# Altium footprint library Motorola Footprints.PcbLib: 408 footprints (part 21 of 26)
Each footprint in its own frame and in the unit in brackets; x right, y up, seen from the top. Pads: shape width x height; smd on the part's side, far side on the other; paste and mask are expansions set on the pad; w line width, h text height; cw(c..) or ccw(c..) is an arc to the next point about the centre after c.
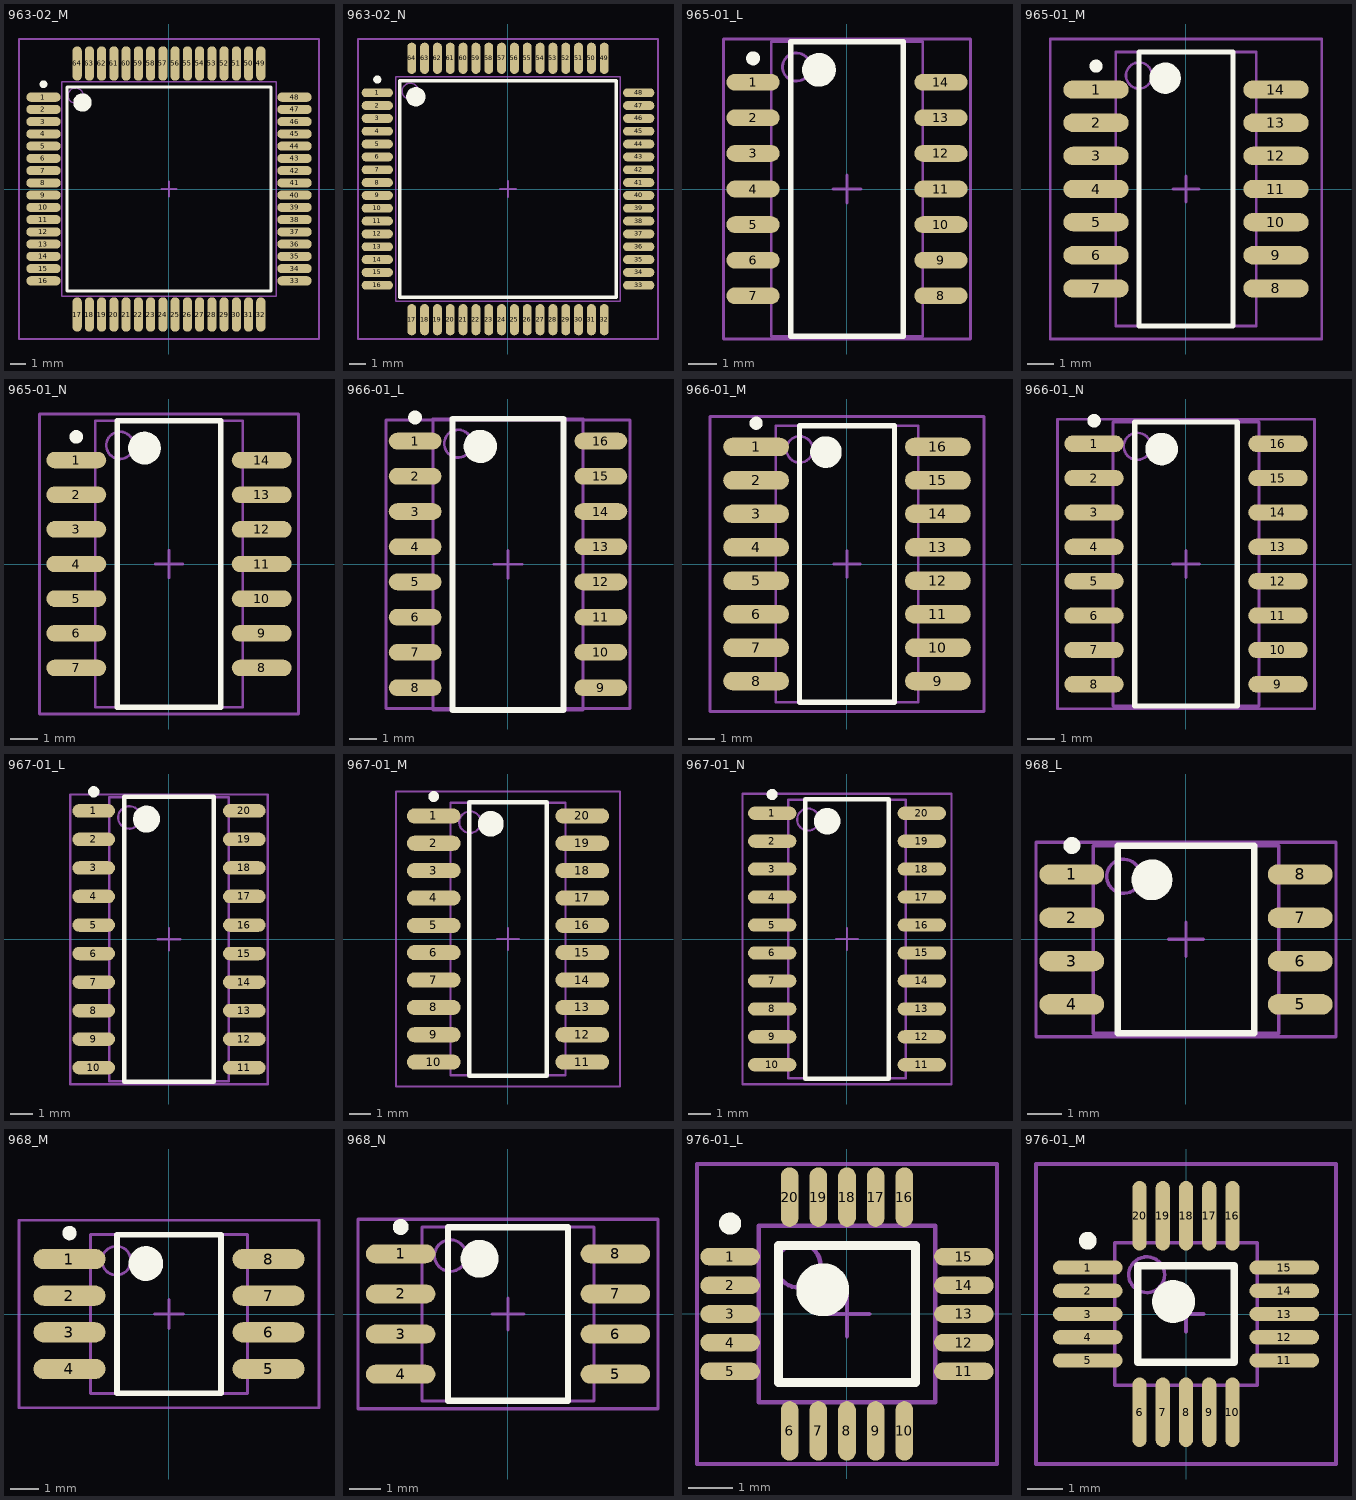
[diagram p20: the footprints below, top view; thin cyan lines are the x and y axes]

## 963-02_M [mm] "64-Pin Quad Flat Pack 0.8 mm Pitch, IPC Low Density"
height 4.11
pads (64):
  oval 2.25x0.6 smd: 1(-8.2,6) 2(-8.2,5.2) 3(-8.2,4.4) 4(-8.2,3.6) 5(-8.2,2.8) 6(-8.2,2) 7(-8.2,1.2) 8(-8.2,0.4) 9(-8.2,-0.4) 10(-8.2,-1.2) 11(-8.2,-2) 12(-8.2,-2.8) 13(-8.2,-3.6) 14(-8.2,-4.4) 15(-8.2,-5.2) 16(-8.2,-6) 33(8.2,-6) 34(8.2,-5.2) 35(8.2,-4.4) 36(8.2,-3.6) 37(8.2,-2.8) 38(8.2,-2) 39(8.2,-1.2) 40(8.2,-0.4) 41(8.2,0.4) 42(8.2,1.2) 43(8.2,2) 44(8.2,2.8) 45(8.2,3.6) 46(8.2,4.4) 47(8.2,5.2) 48(8.2,6)
  oval 0.6x2.25 smd: 17(-6,-8.2) 18(-5.2,-8.2) 19(-4.4,-8.2) 20(-3.6,-8.2) 21(-2.8,-8.2) 22(-2,-8.2) 23(-1.2,-8.2) 24(-0.4,-8.2) 25(0.4,-8.2) 26(1.2,-8.2) 27(2,-8.2) 28(2.8,-8.2) 29(3.6,-8.2) 30(4.4,-8.2) 31(5.2,-8.2) 32(6,-8.2) 49(6,8.2) 50(5.2,8.2) 51(4.4,8.2) 52(3.6,8.2) 53(2.8,8.2) 54(2,8.2) 55(1.2,8.2) 56(0.4,8.2) 57(-0.4,8.2) 58(-1.2,8.2) 59(-2,8.2) 60(-2.8,8.2) 61(-3.6,8.2) 62(-4.4,8.2) 63(-5.2,8.2) 64(-6,8.2)
Top Overlay:
  circle w0.6: c-5.65,5.65 r0.3
  circle w0.25: c-8.2,6.85 r0.125
  lines w0.2: -6.65,-6.65 6.65,-6.65 6.65,6.65 -6.65,6.65 -6.65,-6.65
Mechanical 13:
  circle w0.1: c-6.1,6.1 r0.5
  lines w0.1: -7,-7 7,-7 7,7 -7,7 -7,-7
Mechanical 15:
  lines w0.1: -0.5,0 0.5,0 ; 0,-0.5 0,0.5 ; -9.8,-9.8 9.8,-9.8 9.8,9.8 -9.8,9.8 -9.8,-9.8
3D body: height 4.11, standoff 0, extent -7,-7 7,7

## 963-02_N [mm] "64-Pin Quad Flat Pack 0.8 mm Pitch, IPC Medium Density"
height 4.11
pads (64):
  oval 1.95x0.55 smd: 1(-8.15,6) 2(-8.15,5.2) 3(-8.15,4.4) 4(-8.15,3.6) 5(-8.15,2.8) 6(-8.15,2) 7(-8.15,1.2) 8(-8.15,0.4) 9(-8.15,-0.4) 10(-8.15,-1.2) 11(-8.15,-2) 12(-8.15,-2.8) 13(-8.15,-3.6) 14(-8.15,-4.4) 15(-8.15,-5.2) 16(-8.15,-6) 33(8.15,-6) 34(8.15,-5.2) 35(8.15,-4.4) 36(8.15,-3.6) 37(8.15,-2.8) 38(8.15,-2) 39(8.15,-1.2) 40(8.15,-0.4) 41(8.15,0.4) 42(8.15,1.2) 43(8.15,2) 44(8.15,2.8) 45(8.15,3.6) 46(8.15,4.4) 47(8.15,5.2) 48(8.15,6)
  oval 0.55x1.95 smd: 17(-6,-8.15) 18(-5.2,-8.15) 19(-4.4,-8.15) 20(-3.6,-8.15) 21(-2.8,-8.15) 22(-2,-8.15) 23(-1.2,-8.15) 24(-0.4,-8.15) 25(0.4,-8.15) 26(1.2,-8.15) 27(2,-8.15) 28(2.8,-8.15) 29(3.6,-8.15) 30(4.4,-8.15) 31(5.2,-8.15) 32(6,-8.15) 49(6,8.15) 50(5.2,8.15) 51(4.4,8.15) 52(3.6,8.15) 53(2.8,8.15) 54(2,8.15) 55(1.2,8.15) 56(0.4,8.15) 57(-0.4,8.15) 58(-1.2,8.15) 59(-2,8.15) 60(-2.8,8.15) 61(-3.6,8.15) 62(-4.4,8.15) 63(-5.2,8.15) 64(-6,8.15)
Top Overlay:
  circle w0.6: c-5.75,5.75 r0.3
  circle w0.25: c-8.15,6.825 r0.125
  lines w0.2: -6.75,-6.75 6.75,-6.75 6.75,6.75 -6.75,6.75 -6.75,-6.75
Mechanical 13:
  circle w0.1: c-6.1,6.1 r0.5
  lines w0.1: -7,-7 7,-7 7,7 -7,7 -7,-7
Mechanical 15:
  lines w0.1: -0.5,0 0.5,0 ; 0,-0.5 0,0.5 ; -9.35,-9.35 9.35,-9.35 9.35,9.35 -9.35,9.35 -9.35,-9.35
3D body: height 4.11, standoff 0, extent -7,-7 7,7

## 965-01_L [mm] "14-Pin Small Outline Package 1.27 mm Pitch, IPC High Density"
height 2.05
pads (14):
  oval 1.9x0.6 smd: 1(-3.35,3.81) 2(-3.35,2.54) 3(-3.35,1.27) 4(-3.35,0) 5(-3.35,-1.27) 6(-3.35,-2.54) 7(-3.35,-3.81) 8(3.35,-3.81) 9(3.35,-2.54) 10(3.35,-1.27) 11(3.35,0) 12(3.35,1.27) 13(3.35,2.54) 14(3.35,3.81)
Top Overlay:
  circle w0.25: c-3.35,4.66 r0.125
  circle w0.6: c-1,4.25 r0.3
  lines w0.2: -2,-5.25 -2,5.25 2,5.25 2,-5.25 -2,-5.25
Mechanical 13:
  circle w0.1: c-1.8,4.35 r0.5
  lines w0.1: -2.7,-5.25 -2.7,5.25 2.7,5.25 2.7,-5.25 -2.7,-5.25
Mechanical 15:
  lines w0.1: -0.5,0 0.5,0 ; 0,-0.5 0,0.5 ; -4.4,-5.35 -4.4,5.35 4.4,5.35 4.4,-5.35 -4.4,-5.35
3D body: height 2.05, standoff 0, extent -2.7,-5.25 2.7,5.25

## 965-01_M [mm] "14-Pin Small Outline Package 1.27 mm Pitch, IPC Low Density"
height 2.05
pads (14):
  oval 2.5x0.7 smd: 1(-3.45,3.81) 2(-3.45,2.54) 3(-3.45,1.27) 4(-3.45,0) 5(-3.45,-1.27) 6(-3.45,-2.54) 7(-3.45,-3.81) 8(3.45,-3.81) 9(3.45,-2.54) 10(3.45,-1.27) 11(3.45,0) 12(3.45,1.27) 13(3.45,2.54) 14(3.45,3.81)
Top Overlay:
  circle w0.6: c-0.8,4.25 r0.3
  circle w0.25: c-3.45,4.71 r0.125
  lines w0.2: -1.8,-5.25 1.8,-5.25 1.8,5.25 -1.8,5.25 -1.8,-5.25
Mechanical 13:
  circle w0.1: c-1.8,4.35 r0.5
  lines w0.1: -2.7,-5.25 2.7,-5.25 2.7,5.25 -2.7,5.25 -2.7,-5.25
Mechanical 15:
  lines w0.1: -0.5,0 0.5,0 ; 0,-0.5 0,0.5 ; -5.2,-5.75 5.2,-5.75 5.2,5.75 -5.2,5.75 -5.2,-5.75
3D body: height 2.05, standoff 0, extent -2.7,-5.25 2.7,5.25

## 965-01_N [mm] "14-Pin Small Outline Package 1.27 mm Pitch, IPC Medium Density"
height 2.05
pads (14):
  oval 2.2x0.6 smd: 1(-3.4,3.81) 2(-3.4,2.54) 3(-3.4,1.27) 4(-3.4,0) 5(-3.4,-1.27) 6(-3.4,-2.54) 7(-3.4,-3.81) 8(3.4,-3.81) 9(3.4,-2.54) 10(3.4,-1.27) 11(3.4,0) 12(3.4,1.27) 13(3.4,2.54) 14(3.4,3.81)
Top Overlay:
  circle w0.25: c-3.4,4.66 r0.125
  circle w0.6: c-0.9,4.25 r0.3
  lines w0.2: -1.9,-5.25 -1.9,5.25 1.9,5.25 1.9,-5.25 -1.9,-5.25
Mechanical 13:
  circle w0.1: c-1.8,4.35 r0.5
  lines w0.1: -2.7,-5.25 -2.7,5.25 2.7,5.25 2.7,-5.25 -2.7,-5.25
Mechanical 15:
  lines w0.1: -0.5,0 0.5,0 ; 0,-0.5 0,0.5 ; -4.75,-5.5 -4.75,5.5 4.75,5.5 4.75,-5.5 -4.75,-5.5
3D body: height 2.05, standoff 0, extent -2.7,-5.25 2.7,5.25

## 966-01_L [mm] "16-Pin Small Outline Package 1.27 mm Pitch, IPC High Density"
height 2.05
pads (16):
  oval 1.9x0.6 smd: 1(-3.35,4.445) 2(-3.35,3.175) 3(-3.35,1.905) 4(-3.35,0.635) 5(-3.35,-0.635) 6(-3.35,-1.905) 7(-3.35,-3.175) 8(-3.35,-4.445) 9(3.35,-4.445) 10(3.35,-3.175) 11(3.35,-1.905) 12(3.35,-0.635) 13(3.35,0.635) 14(3.35,1.905) 15(3.35,3.175) 16(3.35,4.445)
Top Overlay:
  circle w0.25: c-3.35,5.295 r0.125
  circle w0.6: c-1,4.25 r0.3
  lines w0.2: -2,-5.25 -2,5.25 2,5.25 2,-5.25 -2,-5.25
Mechanical 13:
  circle w0.1: c-1.8,4.35 r0.5
  lines w0.1: -2.7,-5.25 -2.7,5.25 2.7,5.25 2.7,-5.25 -2.7,-5.25
Mechanical 15:
  lines w0.1: -0.5,0 0.5,0 ; 0,-0.5 0,0.5 ; -4.4,-5.2 -4.4,5.2 4.4,5.2 4.4,-5.2 -4.4,-5.2
3D body: height 2.05, standoff 0, extent -2.7,-5.25 2.7,5.25

## 966-01_M [mm] "16-Pin Small Outline Package 1.27 mm Pitch, IPC Low Density"
height 2.05
pads (16):
  oval 2.5x0.7 smd: 1(-3.45,4.445) 2(-3.45,3.175) 3(-3.45,1.905) 4(-3.45,0.635) 5(-3.45,-0.635) 6(-3.45,-1.905) 7(-3.45,-3.175) 8(-3.45,-4.445) 9(3.45,-4.445) 10(3.45,-3.175) 11(3.45,-1.905) 12(3.45,-0.635) 13(3.45,0.635) 14(3.45,1.905) 15(3.45,3.175) 16(3.45,4.445)
Top Overlay:
  circle w0.6: c-0.8,4.25 r0.3
  circle w0.25: c-3.45,5.345 r0.125
  lines w0.2: -1.8,-5.25 1.8,-5.25 1.8,5.25 -1.8,5.25 -1.8,-5.25
Mechanical 13:
  circle w0.1: c-1.8,4.35 r0.5
  lines w0.1: -2.7,-5.25 2.7,-5.25 2.7,5.25 -2.7,5.25 -2.7,-5.25
Mechanical 15:
  lines w0.1: -0.5,0 0.5,0 ; 0,-0.5 0,0.5 ; -5.2,-5.6 5.2,-5.6 5.2,5.6 -5.2,5.6 -5.2,-5.6
3D body: height 2.05, standoff 0, extent -2.7,-5.25 2.7,5.25

## 966-01_N [mm] "16-Pin Small Outline Package 1.27 mm Pitch, IPC Medium Density"
height 2.05
pads (16):
  oval 2.2x0.6 smd: 1(-3.4,4.445) 2(-3.4,3.175) 3(-3.4,1.905) 4(-3.4,0.635) 5(-3.4,-0.635) 6(-3.4,-1.905) 7(-3.4,-3.175) 8(-3.4,-4.445) 9(3.4,-4.445) 10(3.4,-3.175) 11(3.4,-1.905) 12(3.4,-0.635) 13(3.4,0.635) 14(3.4,1.905) 15(3.4,3.175) 16(3.4,4.445)
Top Overlay:
  circle w0.25: c-3.4,5.295 r0.125
  circle w0.6: c-0.9,4.25 r0.3
  lines w0.2: -1.9,-5.25 -1.9,5.25 1.9,5.25 1.9,-5.25 -1.9,-5.25
Mechanical 13:
  circle w0.1: c-1.8,4.35 r0.5
  lines w0.1: -2.7,-5.25 -2.7,5.25 2.7,5.25 2.7,-5.25 -2.7,-5.25
Mechanical 15:
  lines w0.1: -0.5,0 0.5,0 ; 0,-0.5 0,0.5 ; -4.75,-5.35 -4.75,5.35 4.75,5.35 4.75,-5.35 -4.75,-5.35
3D body: height 2.05, standoff 0, extent -2.7,-5.25 2.7,5.25

## 967-01_L [mm] "20-Pin Small Outline Package 1.27 mm Pitch, IPC High Density"
height 2.05
pads (20):
  oval 1.9x0.6 smd: 1(-3.35,5.715) 2(-3.35,4.445) 3(-3.35,3.175) 4(-3.35,1.905) 5(-3.35,0.635) 6(-3.35,-0.635) 7(-3.35,-1.905) 8(-3.35,-3.175) 9(-3.35,-4.445) 10(-3.35,-5.715) 11(3.35,-5.715) 12(3.35,-4.445) 13(3.35,-3.175) 14(3.35,-1.905) 15(3.35,-0.635) 16(3.35,0.635) 17(3.35,1.905) 18(3.35,3.175) 19(3.35,4.445) 20(3.35,5.715)
Top Overlay:
  circle w0.25: c-3.35,6.565 r0.125
  circle w0.6: c-1,5.35 r0.3
  lines w0.2: -2,-6.35 -2,6.35 2,6.35 2,-6.35 -2,-6.35
Mechanical 13:
  circle w0.1: c-1.765,5.425 r0.5
  lines w0.1: -2.665,-6.325 -2.665,6.325 2.665,6.325 2.665,-6.325 -2.665,-6.325
Mechanical 15:
  lines w0.1: -0.5,0 0.5,0 ; 0,-0.5 0,0.5 ; -4.4,-6.45 -4.4,6.45 4.4,6.45 4.4,-6.45 -4.4,-6.45
3D body: height 2.05, standoff 0, extent -2.665,-6.325 2.665,6.325

## 967-01_M [mm] "20-Pin Small Outline Package 1.27 mm Pitch, IPC Low Density"
height 2.05
pads (20):
  oval 2.5x0.7 smd: 1(-3.45,5.715) 2(-3.45,4.445) 3(-3.45,3.175) 4(-3.45,1.905) 5(-3.45,0.635) 6(-3.45,-0.635) 7(-3.45,-1.905) 8(-3.45,-3.175) 9(-3.45,-4.445) 10(-3.45,-5.715) 11(3.45,-5.715) 12(3.45,-4.445) 13(3.45,-3.175) 14(3.45,-1.905) 15(3.45,-0.635) 16(3.45,0.635) 17(3.45,1.905) 18(3.45,3.175) 19(3.45,4.445) 20(3.45,5.715)
Top Overlay:
  circle w0.6: c-0.8,5.35 r0.3
  circle w0.25: c-3.45,6.615 r0.125
  lines w0.2: -1.8,-6.35 1.8,-6.35 1.8,6.35 -1.8,6.35 -1.8,-6.35
Mechanical 13:
  circle w0.1: c-1.765,5.425 r0.5
  lines w0.1: -2.665,-6.325 2.665,-6.325 2.665,6.325 -2.665,6.325 -2.665,-6.325
Mechanical 15:
  lines w0.1: -0.5,0 0.5,0 ; 0,-0.5 0,0.5 ; -5.2,-6.85 5.2,-6.85 5.2,6.85 -5.2,6.85 -5.2,-6.85
3D body: height 2.05, standoff 0, extent -2.665,-6.325 2.665,6.325

## 967-01_N [mm] "20-Pin Small Outline Package 1.27 mm Pitch, IPC Medium Density"
height 2.05
pads (20):
  oval 2.2x0.6 smd: 1(-3.4,5.715) 2(-3.4,4.445) 3(-3.4,3.175) 4(-3.4,1.905) 5(-3.4,0.635) 6(-3.4,-0.635) 7(-3.4,-1.905) 8(-3.4,-3.175) 9(-3.4,-4.445) 10(-3.4,-5.715) 11(3.4,-5.715) 12(3.4,-4.445) 13(3.4,-3.175) 14(3.4,-1.905) 15(3.4,-0.635) 16(3.4,0.635) 17(3.4,1.905) 18(3.4,3.175) 19(3.4,4.445) 20(3.4,5.715)
Top Overlay:
  circle w0.25: c-3.4,6.565 r0.125
  circle w0.6: c-0.9,5.35 r0.3
  lines w0.2: -1.9,-6.35 -1.9,6.35 1.9,6.35 1.9,-6.35 -1.9,-6.35
Mechanical 13:
  circle w0.1: c-1.765,5.425 r0.5
  lines w0.1: -2.665,-6.325 -2.665,6.325 2.665,6.325 2.665,-6.325 -2.665,-6.325
Mechanical 15:
  lines w0.1: -0.5,0 0.5,0 ; 0,-0.5 0,0.5 ; -4.75,-6.6 -4.75,6.6 4.75,6.6 4.75,-6.6 -4.75,-6.6
3D body: height 2.05, standoff 0, extent -2.665,-6.325 2.665,6.325

## 968_L [mm] "8-Pin Small Outline Package 1.27 mm Pitch, IPC High Density"
height 2.2
pads (8):
  oval 1.9x0.6 smd: 1(-3.35,1.905) 2(-3.35,0.635) 3(-3.35,-0.635) 4(-3.35,-1.905) 5(3.35,-1.905) 6(3.35,-0.635) 7(3.35,0.635) 8(3.35,1.905)
Top Overlay:
  circle w0.25: c-3.35,2.755 r0.125
  circle w0.6: c-1,1.75 r0.3
  lines w0.2: -2,-2.75 -2,2.75 2,2.75 2,-2.75 -2,-2.75
Mechanical 13:
  circle w0.1: c-1.825,1.85 r0.5
  lines w0.1: -2.725,-2.75 -2.725,2.75 2.725,2.75 2.725,-2.75 -2.725,-2.75
Mechanical 15:
  lines w0.1: -0.5,0 0.5,0 ; 0,-0.5 0,0.5 ; -4.4,-2.85 -4.4,2.85 4.4,2.85 4.4,-2.85 -4.4,-2.85
3D body: height 2.2, standoff 0, extent -2.725,-2.75 2.725,2.75

## 968_M [mm] "8-Pin Small Outline Package 1.27 mm Pitch, IPC Low Density"
height 2.2
pads (8):
  oval 2.5x0.7 smd: 1(-3.45,1.905) 2(-3.45,0.635) 3(-3.45,-0.635) 4(-3.45,-1.905) 5(3.45,-1.905) 6(3.45,-0.635) 7(3.45,0.635) 8(3.45,1.905)
Top Overlay:
  circle w0.6: c-0.8,1.75 r0.3
  circle w0.25: c-3.45,2.805 r0.125
  lines w0.2: -1.8,-2.75 1.8,-2.75 1.8,2.75 -1.8,2.75 -1.8,-2.75
Mechanical 13:
  circle w0.1: c-1.825,1.85 r0.5
  lines w0.1: -2.725,-2.75 2.725,-2.75 2.725,2.75 -2.725,2.75 -2.725,-2.75
Mechanical 15:
  lines w0.1: -0.5,0 0.5,0 ; 0,-0.5 0,0.5 ; -5.2,-3.25 5.2,-3.25 5.2,3.25 -5.2,3.25 -5.2,-3.25
3D body: height 2.2, standoff 0, extent -2.725,-2.75 2.725,2.75

## 968_N [mm] "8-Pin Small Outline Package 1.27 mm Pitch, IPC Medium Density"
height 2.2
pads (8):
  oval 2.2x0.6 smd: 1(-3.4,1.905) 2(-3.4,0.635) 3(-3.4,-0.635) 4(-3.4,-1.905) 5(3.4,-1.905) 6(3.4,-0.635) 7(3.4,0.635) 8(3.4,1.905)
Top Overlay:
  circle w0.25: c-3.4,2.755 r0.125
  circle w0.6: c-0.9,1.75 r0.3
  lines w0.2: -1.9,-2.75 -1.9,2.75 1.9,2.75 1.9,-2.75 -1.9,-2.75
Mechanical 13:
  circle w0.1: c-1.825,1.85 r0.5
  lines w0.1: -2.725,-2.75 -2.725,2.75 2.725,2.75 2.725,-2.75 -2.725,-2.75
Mechanical 15:
  lines w0.1: -0.5,0 0.5,0 ; 0,-0.5 0,0.5 ; -4.75,-3 -4.75,3 4.75,3 4.75,-3 -4.75,-3
3D body: height 2.2, standoff 0, extent -2.725,-2.75 2.725,2.75

## 976-01_L [mm] "20-Pin Thin Quad Flat Pack 0.65 mm Pitch, IPC High Density"
height 1.6
pads (20):
  oval 1.35x0.4 smd: 1(-2.65,1.3) 2(-2.65,0.65) 3(-2.65,0) 4(-2.65,-0.65) 5(-2.65,-1.3) 11(2.65,-1.3) 12(2.65,-0.65) 13(2.65,0) 14(2.65,0.65) 15(2.65,1.3)
  oval 0.4x1.35 smd: 6(-1.3,-2.65) 7(-0.65,-2.65) 8(0,-2.65) 9(0.65,-2.65) 10(1.3,-2.65) 16(1.3,2.65) 17(0.65,2.65) 18(0,2.65) 19(-0.65,2.65) 20(-1.3,2.65)
Top Overlay:
  circle w0.25: c-2.65,2.05 r0.125
  circle w0.6: c-0.55,0.55 r0.3
  lines w0.2: -1.55,-1.55 -1.55,1.55 1.55,1.55 1.55,-1.55 -1.55,-1.55
Mechanical 13:
  circle w0.1: c-1.1,1.1 r0.5
  lines w0.1: -2,-2 -2,2 2,2 2,-2 -2,-2
Mechanical 15:
  lines w0.1: -0.5,0 0.5,0 ; 0,-0.5 0,0.5 ; -3.4,-3.4 -3.4,3.4 3.4,3.4 3.4,-3.4 -3.4,-3.4
3D body: height 1.6, standoff 0, extent -2,-2 2,2

## 976-01_M [mm] "20-Pin Thin Quad Flat Pack 0.65 mm Pitch, IPC Low Density"
height 1.6
pads (20):
  oval 1.95x0.4 smd: 1(-2.75,1.3) 2(-2.75,0.65) 3(-2.75,0) 4(-2.75,-0.65) 5(-2.75,-1.3) 11(2.75,-1.3) 12(2.75,-0.65) 13(2.75,0) 14(2.75,0.65) 15(2.75,1.3)
  oval 0.4x1.95 smd: 6(-1.3,-2.75) 7(-0.65,-2.75) 8(0,-2.75) 9(0.65,-2.75) 10(1.3,-2.75) 16(1.3,2.75) 17(0.65,2.75) 18(0,2.75) 19(-0.65,2.75) 20(-1.3,2.75)
Top Overlay:
  circle w0.25: c-2.75,2.05 r0.125
  circle w0.6: c-0.35,0.35 r0.3
  lines w0.2: -1.35,-1.35 -1.35,1.35 1.35,1.35 1.35,-1.35 -1.35,-1.35
Mechanical 13:
  circle w0.1: c-1.1,1.1 r0.5
  lines w0.1: -2,-2 -2,2 2,2 2,-2 -2,-2
Mechanical 15:
  lines w0.1: -0.5,0 0.5,0 ; 0,-0.5 0,0.5 ; -4.2,-4.2 -4.2,4.2 4.2,4.2 4.2,-4.2 -4.2,-4.2
3D body: height 1.6, standoff 0, extent -2,-2 2,2